# Altium schematic symbol library Schlib.SchLib: 1 symbol
Pins are listed as number, name and electrical type; pins without a type are passive.

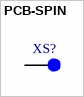
[diagram p0: symbol PCB-SPIN]

## PCB-SPIN
designator XS?  (value not drawn)  (no BOM)
footprint PCB-SPIN
pins: 1